# EAGLE library part TL5001* (library IC_Power-Management)
Pulse Width Modulation Control circuits Datasheet <https://www.ti.com/lit/ds/symlink/tl5001.pdf?ts=1611818751308&ref_url=https%253A%252F%252Fwww.ti.com%252Fstore%252Fti%252Fen%252Fp%252Fproduct%252F%253Fp%253DTL5001ID%2526HQS%253Dapp-null-null-trifecta-invf-store-findchipsbnl2-wwe>
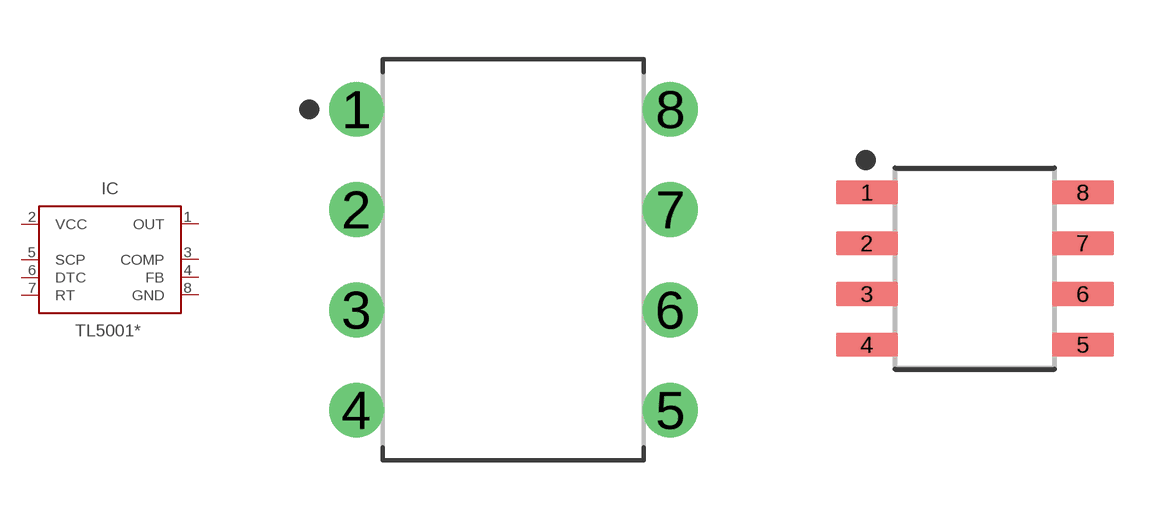
[diagram p16: symbol with the pads of DIP794W53P254L959H508Q8B; footprints DIP794W53P254L959H508Q8B, SOIC127P599X175-8]

Designator prefix IC

## TL5001AIP-DIP (CATEGORY: IC_Power-Management; DESCRIPTION: Pulse Width Modulation Control circuits; MANUFACTURER: TEXAS INSTRUMENTS; MPN: TL5001AIP; OPERATING_TEMP: -40°C to 85°C; PART_STATUS: Active; ROHS_COMPLIANT: COMPLIANT; SERIES: TL5001; SUB-CATEGORY: Voltage-Regulator; TYPE: PWM DC to DC Controller; VALUE: TL5001AIP), TL5001CP-DIP (CATEGORY: IC_Power-Management; DESCRIPTION: Pulse Width Modulation Control circuits; MANUFACTURER: TEXAS INSTRUMENTS; MPN: TL5001CP; OPERATING_TEMP: -25°C to 85°C; PART_STATUS: Active; ROHS_COMPLIANT: COMPLIANT; SERIES: TL5001; SUB-CATEGORY: Voltage-Regulator; TYPE: PWM DC to DC Controller; VALUE: TL5001CP), TL5001IP-DIP (CATEGORY: IC_Power-Management; DESCRIPTION: Pulse Width Modulation Control circuits; MANUFACTURER: TEXAS INSTRUMENTS; MPN: TL5001IP; OPERATING_TEMP: -40°C to 85°C; PART_STATUS: Active; ROHS_COMPLIANT: COMPLIANT; SERIES: TL5001; SUB-CATEGORY: Voltage-Regulator; TYPE: PWM DC to DC Controller; VALUE: TL5001IP), TL5001IPE4-DIP (CATEGORY: IC_Power-Management; DESCRIPTION: Pulse Width Modulation Control circuits; MANUFACTURER: TEXAS INSTRUMENTS; MPN: TL5001IPE4; OPERATING_TEMP: -40°C to 85°C; PART_STATUS: Active; ROHS_COMPLIANT: COMPLIANT; SERIES: TL5001; SUB-CATEGORY: Voltage-Regulator; TYPE: PWM DC to DC Controller; VALUE: TL5001IPE4)  [DIP794W53P254L959H508Q8B]
1  OUT  out
2  VCC  pwr
3  COMP
4  FB  in
5  SCP  in
6  DTC  in
7  RT  in
8  GND  pwr

## TL5001ACD-SOIC-8 (CATEGORY: PWM Circuits; DESCRIPTION: Pulse Width Modulation Control circuits; MANUFACTURER: TEXAS INSTRUMENTS; MPN: TL5001ACD; OPERATING_TEMP: -20°C to 85°C; PART_STATUS: Active; ROHS_COMPLIANT: COMPLIANT; SERIES: TL5001; SUB-CATEGORY: Voltage-Regulator; TYPE: PWM DC to DC Controller; VALUE: TL5001ACD), TL5001ACDR-SOIC-8 (CATEGORY: PWM Circuits; DESCRIPTION: Pulse Width Modulation Control circuits; MANUFACTURER: TEXAS INSTRUMENTS; MPN: TL5001ACDR; OPERATING_TEMP: -20°C to 85°C; PART_STATUS: Active; ROHS_COMPLIANT: COMPLIANT; SERIES: TL5001; SUB-CATEGORY: Voltage-Regulator; TYPE: PWM DC to DC Controller; VALUE: TL5001ACDR), TL5001AID-SOIC-8 (CATEGORY: PWM Circuits; DESCRIPTION: Pulse Width Modulation Control circuits; MANUFACTURER: TEXAS INSTRUMENTS; MPN: TL5001AID; OPERATING_TEMP: -40°C to 85°C; PART_STATUS: Active; ROHS_COMPLIANT: COMPLIANT; SERIES: TL5001; SUB-CATEGORY: Voltage-Regulator; TYPE: PWM DC to DC Controller; VALUE: TL5001AID), TL5001AIDG4-SOIC-8 (CATEGORY: PWM Circuits; DESCRIPTION: Pulse Width Modulation Control circuits; MANUFACTURER: TEXAS INSTRUMENTS; MPN: TL5001AIDG4; OPERATING_TEMP: -40°C to 85°C; PART_STATUS: Active; ROHS_COMPLIANT: COMPLIANT; SERIES: TL5001; SUB-CATEGORY: Voltage-Regulator; TYPE: PWM DC to DC Controller; VALUE: TL5001AIDG4), TL5001AIDR-SOIC-8 (CATEGORY: PWM Circuits; DESCRIPTION: Pulse Width Modulation Control circuits; MANUFACTURER: TEXAS INSTRUMENTS; MPN: TL5001AIDR; OPERATING_TEMP: -40°C to 85°C; PART_STATUS: Active; ROHS_COMPLIANT: COMPLIANT; SERIES: TL5001; SUB-CATEGORY: Voltage-Regulator; TYPE: PWM DC to DC Controller; VALUE: TL5001AIDR), TL5001AIDRG4-SOIC-8 (CATEGORY: PWM Circuits; DESCRIPTION: Pulse Width Modulation Control circuits; MANUFACTURER: TEXAS INSTRUMENTS; MPN: TL5001AIDRG4; OPERATING_TEMP: -40°C to 85°C; PART_STATUS: Active; ROHS_COMPLIANT: COMPLIANT; SERIES: TL5001; SUB-CATEGORY: Voltage-Regulator; TYPE: PWM DC to DC Controller; VALUE: TL5001AIDRG4), TL5001AQD-SOIC-8 (CATEGORY: PWM Circuits; DESCRIPTION: Pulse Width Modulation Control circuits; MANUFACTURER: TEXAS INSTRUMENTS; MPN: TL5001AQD; OPERATING_TEMP: -40°C to 125°C; PART_STATUS: Active; ROHS_COMPLIANT: COMPLIANT; SERIES: TL5001; SUB-CATEGORY: Voltage-Regulator; TYPE: PWM DC to DC Controller; VALUE: TL5001AQD), TL5001AQDG4-SOIC-8 (CATEGORY: PWM Circuits; DESCRIPTION: Pulse Width Modulation Control circuits; MANUFACTURER: TEXAS INSTRUMENTS; MPN: TL5001AQDG4; OPERATING_TEMP: -; PART_STATUS: Active; ROHS_COMPLIANT: COMPLIANT; SERIES: TL5001; SUB-CATEGORY: Voltage-Regulator; TYPE: PWM DC to DC Controller; VALUE: TL5001AQDG4), TL5001AQDR-SOIC-8 (CATEGORY: PWM Circuits; DESCRIPTION: Pulse Width Modulation Control circuits; MANUFACTURER: TEXAS INSTRUMENTS; MPN: TL5001AQDR; OPERATING_TEMP: -40°C to 125°C; PART_STATUS: Active; ROHS_COMPLIANT: COMPLIANT; SERIES: TL5001; SUB-CATEGORY: Voltage-Regulator; TYPE: PWM DC to DC Controller; VALUE: TL5001AQDR), TL5001AQDRG4-SOIC-8 (CATEGORY: PWM Circuits; DESCRIPTION: Pulse Width Modulation Control circuits; MANUFACTURER: TEXAS INSTRUMENTS; MPN: TL5001AQDRG4; OPERATING_TEMP: -; PART_STATUS: Active; ROHS_COMPLIANT: COMPLIANT; SERIES: TL5001; SUB-CATEGORY: Voltage-Regulator; TYPE: PWM DC to DC Controller; VALUE: TL5001AQDRG4), TL5001CD-SOIC-8 (CATEGORY: PWM Circuits; DESCRIPTION: Pulse Width Modulation Control circuits; MANUFACTURER: TEXAS INSTRUMENTS; MPN: TL5001CD; OPERATING_TEMP: -25°C to 85°C; PART_STATUS: Active; ROHS_COMPLIANT: COMPLIANT; SERIES: TL5001; SUB-CATEGORY: Voltage-Regulator; TYPE: PWM DC to DC Controller; VALUE: TL5001CD), TL5001CDG4-SOIC-8 (CATEGORY: PWM Circuits; DESCRIPTION: Pulse Width Modulation Control circuits; MANUFACTURER: TEXAS INSTRUMENTS; MPN: TL5001CDG4; OPERATING_TEMP: -25°C to 85°C; PART_STATUS: Active; ROHS_COMPLIANT: COMPLIANT; SERIES: TL5001; SUB-CATEGORY: Voltage-Regulator; TYPE: PWM DC to DC Controller; VALUE: TL5001CDG4), TL5001CDR-SOIC-8 (CATEGORY: PWM Circuits; DESCRIPTION: Pulse Width Modulation Control circuits; MANUFACTURER: TEXAS INSTRUMENTS; MPN: TL5001CDR; OPERATING_TEMP: -25°C to 85°C; PART_STATUS: Active; ROHS_COMPLIANT: COMPLIANT; SERIES: TL5001; SUB-CATEGORY: Voltage-Regulator; TYPE: PWM DC to DC Controller; VALUE: TL5001CDR), TL5001CDRG4-SOIC-8 (CATEGORY: PWM Circuits; DESCRIPTION: Pulse Width Modulation Control circuits; MANUFACTURER: TEXAS INSTRUMENTS; MPN: TL5001CDRG4; OPERATING_TEMP: -25°C to 85°C; PART_STATUS: Active; ROHS_COMPLIANT: COMPLIANT; SERIES: TL5001; SUB-CATEGORY: Voltage-Regulator; TYPE: PWM DC to DC Controller; VALUE: TL5001CDRG4), TL5001ID-SOIC-8 (CATEGORY: PWM Circuits; DESCRIPTION: Pulse Width Modulation Control circuits; MANUFACTURER: TEXAS INSTRUMENTS; MPN: TL5001ID; OPERATING_TEMP: -40°C to 85°C; PART_STATUS: Active; ROHS_COMPLIANT: COMPLIANT; SERIES: TL5001; SUB-CATEGORY: Voltage-Regulator; TYPE: PWM DC to DC Controller; VALUE: TL5001ID), TL5001IDR-SOIC-8 (CATEGORY: PWM Circuits; DESCRIPTION: Pulse Width Modulation Control circuits; MANUFACTURER: TEXAS INSTRUMENTS; MPN: TL5001IDR; OPERATING_TEMP: -40°C to 85°C; PART_STATUS: Active; ROHS_COMPLIANT: COMPLIANT; SERIES: TL5001; SUB-CATEGORY: Voltage-Regulator; TYPE: PWM DC to DC Controller; VALUE: TL5001IDR), TL5001IDRG4-SOIC-8 (CATEGORY: PWM Circuits; DESCRIPTION: Pulse Width Modulation Control circuits; MANUFACTURER: TEXAS INSTRUMENTS; MPN: TL5001IDRG4; OPERATING_TEMP: -40°C to 85°C; PART_STATUS: Active; ROHS_COMPLIANT: COMPLIANT; SERIES: TL5001; SUB-CATEGORY: Voltage-Regulator; TYPE: PWM DC to DC Controller; VALUE: TL5001IDRG4), TL5001QD-SOIC-8 (CATEGORY: PWM Circuits; DESCRIPTION: Pulse Width Modulation Control circuits; MANUFACTURER: TEXAS INSTRUMENTS; MPN: TL5001QD; OPERATING_TEMP: -40°C to 125°C; PART_STATUS: Active; ROHS_COMPLIANT: COMPLIANT; SERIES: TL5001; SUB-CATEGORY: Voltage-Regulator; TYPE: PWM DC to DC Controller; VALUE: TL5001QD), TL5001QDG4-SOIC-8 (CATEGORY: PWM Circuits; DESCRIPTION: Pulse Width Modulation Control circuits; MANUFACTURER: TEXAS INSTRUMENTS; MPN: TL5001QDG4; OPERATING_TEMP: -; PART_STATUS: Active; ROHS_COMPLIANT: COMPLIANT; SERIES: TL5001; SUB-CATEGORY: Voltage-Regulator; TYPE: PWM DC to DC Controller; VALUE: TL5001QDG4), TL5001QDR-SOIC-8 (CATEGORY: PWM Circuits; DESCRIPTION: Pulse Width Modulation Control circuits; MANUFACTURER: TEXAS INSTRUMENTS; MPN: TL5001QDR; OPERATING_TEMP: -40°C to 125°C; PART_STATUS: Active; ROHS_COMPLIANT: COMPLIANT; SERIES: TL5001; SUB-CATEGORY: Voltage-Regulator; TYPE: PWM DC to DC Controller; VALUE: TL5001QDR), TL5001QDRG4-SOIC-8 (CATEGORY: PWM Circuits; DESCRIPTION: Pulse Width Modulation Control circuits; MANUFACTURER: TEXAS INSTRUMENTS; MPN: TL5001QDRG4; OPERATING_TEMP: -; PART_STATUS: Active; ROHS_COMPLIANT: COMPLIANT; SERIES: TL5001; SUB-CATEGORY: Voltage-Regulator; TYPE: PWM DC to DC Controller; VALUE: TL5001QDRG4)  [SOIC127P599X175-8]
Pads as for DIP794W53P254L959H508Q8B

## TL5001CPS-SO-8 (CATEGORY: PWM Circuits; DESCRIPTION: Pulse Width Modulation Control circuits; MANUFACTURER: TEXAS INSTRUMENTS; MPN: TL5001CPS; OPERATING_TEMP: -; PART_STATUS: Active; ROHS_COMPLIANT: COMPLIANT; SERIES: TL5001; SUB-CATEGORY: Voltage-Regulator; TYPE: PWM DC to DC Controller; VALUE: TL5001CPS), TL5001CPSR-SO-8 (CATEGORY: PWM Circuits; DESCRIPTION: Pulse Width Modulation Control circuits; MANUFACTURER: TEXAS INSTRUMENTS; MPN: TL5001CPSR; OPERATING_TEMP: -25°C to 85°C; PART_STATUS: Active; ROHS_COMPLIANT: COMPLIANT; SERIES: TL5001; SUB-CATEGORY: Voltage-Regulator; TYPE: PWM DC to DC Controller; VALUE: TL5001CPSR), TL5001IPSR-SO-8 (CATEGORY: PWM Circuits; DESCRIPTION: Pulse Width Modulation Control circuits; MANUFACTURER: TEXAS INSTRUMENTS; MPN: TL5001IPSR; OPERATING_TEMP: -; PART_STATUS: Active; ROHS_COMPLIANT: COMPLIANT; SERIES: TL5001; SUB-CATEGORY: Voltage-Regulator; TYPE: PWM DC to DC Controller; VALUE: TL5001IPSR)  [SOIC127P780X200-8N]
Pads as for DIP794W53P254L959H508Q8B

## Footprint DIP794W53P254L959H508Q8B (pad centres in mm)
8-DIP, 2.54 mm (0.10 in) pitch, 7.94 mm (0.31 in) span, 9.59 X 6.35 X 5.08 mm body 8-pin DIP package with 2.54 mm (0.10 in) pitch, 7.94 mm (0.31 in) span with body size 9.59 X 6.35 X 5.08 mm
drill 0.786 pad 1.386: 1 -3.97,3.81; 2 -3.97,1.27; 3 -3.97,-1.27; 4 -3.97,-3.81; 5 3.97,-3.81; 6 3.97,-1.27; 7 3.97,1.27; 8 3.97,3.81

## Footprint SOIC127P599X175-8 (pad centres in mm)
8-SOIC, 1.27 mm pitch, 6.00 mm span, 4.91 X 3.90 X 1.75 mm body 8-pin SOIC package with 1.27 mm pitch, 6.00 mm span with body size 4.91 X 3.90 X 1.75 mm
smd 1.55 x 0.6: 1 -2.7,1.905; 2 -2.7,0.635; 3 -2.7,-0.635; 4 -2.7,-1.905; 5 2.7,-1.905; 6 2.7,-0.635; 7 2.7,0.635; 8 2.7,1.905

## Footprint SOIC127P780X200-8N (pad centres in mm)
8-SOIC, 1.27 mm pitch, 7.80 mm span, 6.20 X 5.30 X 2.00 mm body 8-pin SOIC package with 1.27 mm pitch, 7.80 mm span with body size 6.20 X 5.30 X 2.00 mm
smd 2.108 x 0.608: 1 -3.4,1.905; 2 -3.4,0.635; 3 -3.4,-0.635; 4 -3.4,-1.905; 5 3.4,-1.905; 6 3.4,-0.635; 7 3.4,0.635; 8 3.4,1.905